# Altium integrated library nrf5340_claa.IntLib: 16 symbols
Pins are listed as number, name and electrical type; pins without a type are passive.

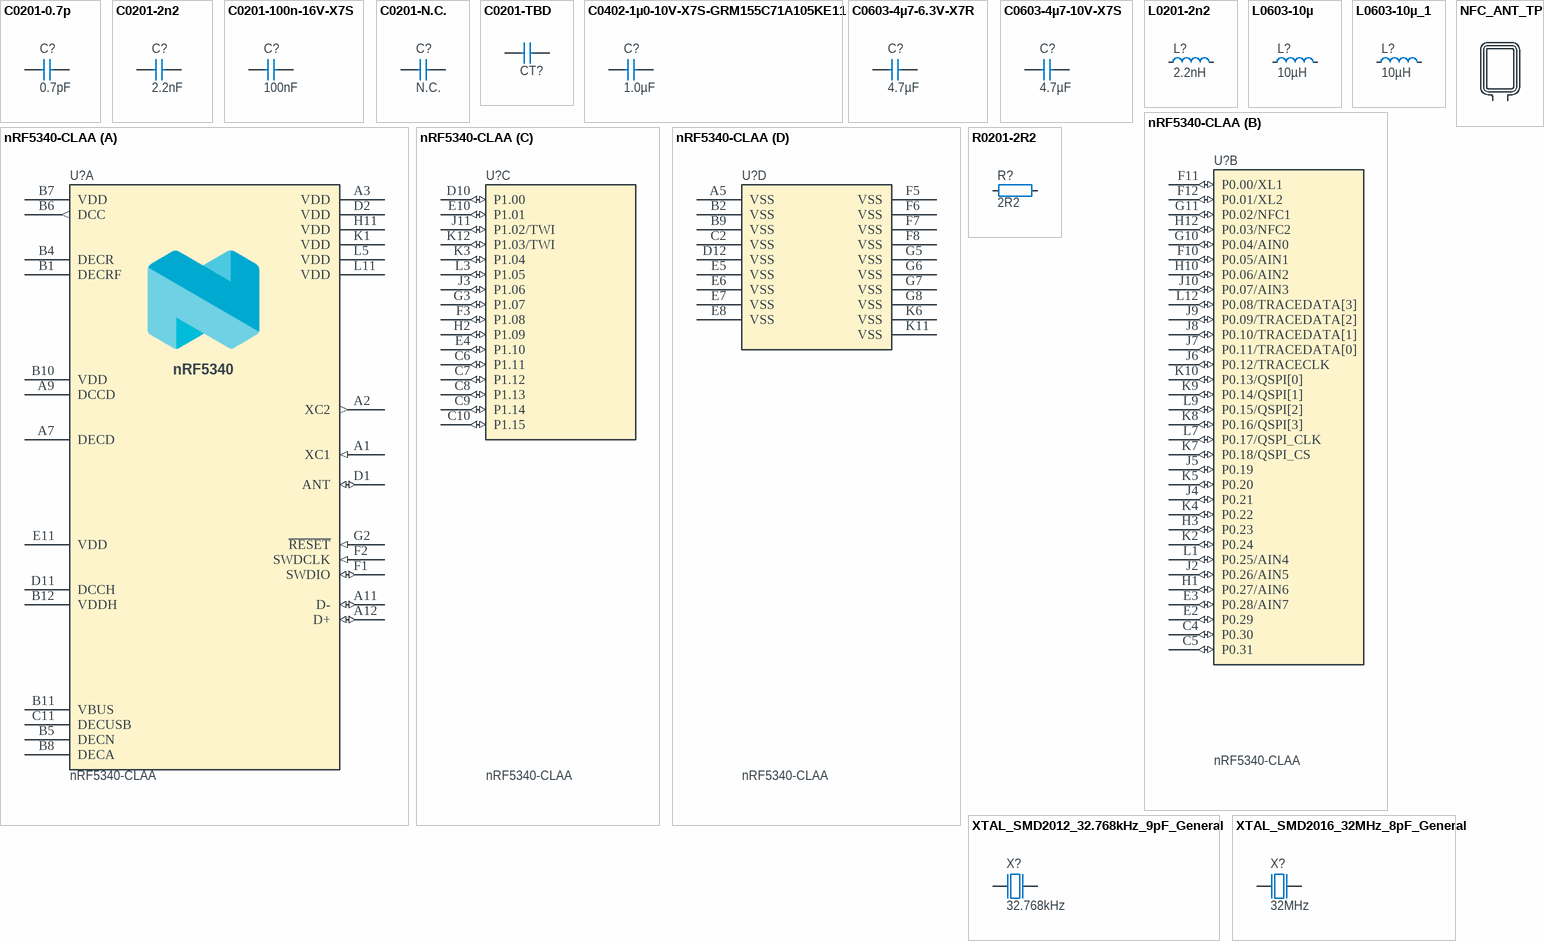
[diagram p0: symbols C0201-0.7p to XTAL_SMD2016_32MHz_8pF_General]

## C0201-0.7p
designator C?, comment 0.7pF
Capacitor, NP0, ±0.05pF; Pad Count: 2; Value: 0.7pF; Footprint Doc: 0201; Component Class: Capacitors; Author: rsk
footprint CAPC0603X03L_C
pins: 1, 2

## C0201-2n2
designator C?, comment 2.2nF
Capacitor, X7R, ±10%; Pad Count: 2; Value: 2.2nF; Footprint Doc: 0201; Component Class: Capacitors; Author: rsk
footprint CAPC0603X03L_C
pins: 1, 2

## C0201-100n-16V-X7S
designator C?, comment 100nF
Capacitor, X7S, ±10%; Pad Count: 2; Value: 100nF; Footprint Doc: 0201; Component Class: Capacitors; Author: rsk
footprint CAPC0603X03L_C
pins: 1, 2

## C0201-N.C.
designator C?, comment N.C.
Not mounted; Assembly: Not mounted; Pad Count: 2; Value: N.C.; Footprint Doc: 0201; Component Class: Capacitors; Author: rsk
footprint CAPC0603X03L_C_NC
pins: 1, 2

## C0201-TBD
designator CT?, comment Antenna dependent  (value not drawn)
Capacitor, NP0, ±5%; Pad Count: 2; Footprint Doc: 0201; Value: Antenna dependent; Component Class: Capacitors; Author: rsk
footprint CAPC0603X03L_C
pins: 1, 2

## C0402-1µ0-10V-X7S-GRM155C71A105KE11
designator C?, comment 1.0µF
Capacitor, X7S, ±10%; Pad Count: 2; Value: 1.0µF; Footprint Doc: 0402; Component Class: Capacitors; Author: prbu
footprint CAPC1005X04L
pins: 1, 2

## C0603-4µ7-6.3V-X7R
designator C?, comment 4.7µF
Capacitor, X7R, ±10%; Pad Count: 2; Value: 4.7µF; Footprint Doc: 0603; Component Class: Capacitors; Author: rsk
footprint CAPC1608X06L
pins: 1, 2

## C0603-4µ7-10V-X7S
designator C?, comment 4.7µF
Capacitor, X7S, ±10%; Pad Count: 2; Value: 4.7µF; Footprint Doc: 0603; Component Class: Capacitors; Author: rsk
footprint CAPC1608X06L
pins: 1, 2

## L0201-2n2
designator L?, comment 2.2nH
High frequency chip inductor, ±5%; Pad Count: 2; Footprint Doc: 0201; Value: 2.2nH; Component Class: Inductors; Author: rsk
footprint INDC0603X03L_C
pins: 1, 2

## L0603-10µ
designator L?, comment 10µH
Chip inductor, IDC,min = 50 mA, ±20%; Pad Count: 2; Value: 10µH; Footprint Doc: 0603; Component Class: Inductors; Author: rsk
footprint INDC1608X06L
pins: 1, 2

## L0603-10µ_1
designator L?, comment 10µH
Chip inductor, IDC,min = 80 mA, ±20%; Pad Count: 2; Value: 10µH; Footprint Doc: 0603; Component Class: Inductors; Author: rsk
footprint INDC1608X06L
pins: 1, 2

## NFC_ANT_TP
designator A?, comment NFC Antenna  (value not drawn)  (no BOM)
Pad Count: 2; Footprint Doc: TP_2x1mm_TH; Value: NFC Antenna; Component Class: Antennas; Author: rsk
footprint TP_2x1mm_TH
pins: 1, 2

## nRF5340-CLAA
designator U?
Multi-protocol Bluetooth Low Energy, IEEE 802.15.4, ANT and 2.4GHz proprietary system-on-chip; Pad Count: 95; Footprint Doc: WLCSP-95; Value: nRF5340-CLAA; Component Class: nRF_Devices; Author: rsk
footprint BGA95C35P12X11_437X397X50
part A pins: A1 XC1 (in), A2 XC2 (out), A3 VDD (power), A7 DECD (power), A9 DCCD (power), A11 D- (io), A12 D+ (io), B1 DECRF (power), B4 DECR (power), B5 DECN (power), B6 DCC (out), B7 VDD (power), B8 DECA (power), B10 VDD (power), B11 VBUS (power), B12 VDDH (power), C11 DECUSB (power), D1 ANT (io), D2 VDD (power), D11 DCCH (power), E11 VDD (power), F1 SWDIO (io), F2 SWDCLK (in), G2 ~{RESET} (in), H11 VDD (power), K1 VDD (power), L5 VDD (power), L11 VDD (power)
part B pins: C4 P0.30 (io), C5 P0.31 (io), E2 P0.29 (io), E3 P0.28/AIN7 (io), F10 P0.05/AIN1 (io), F11 P0.00/XL1 (io), F12 P0.01/XL2 (io), G10 P0.04/AIN0 (io), G11 P0.02/NFC1 (io), H1 P0.27/AIN6 (io), H3 P0.23 (io), H10 P0.06/AIN2 (io), H12 P0.03/NFC2 (io), J2 P0.26/AIN5 (io), J4 P0.21 (io), J5 P0.19 (io), J6 P0.12/TRACECLK (io), J7 P0.11/TRACEDATA[0] (io), J8 P0.10/TRACEDATA[1] (io), J9 P0.09/TRACEDATA[2] (io), J10 P0.07/AIN3 (io), K2 P0.24 (io), K4 P0.22 (io), K5 P0.20 (io), K7 P0.18/QSPI_CS (io), K8 P0.16/QSPI[3] (io), K9 P0.14/QSPI[1] (io), K10 P0.13/QSPI[0] (io), L1 P0.25/AIN4 (io), L7 P0.17/QSPI_CLK (io), L9 P0.15/QSPI[2] (io), L12 P0.08/TRACEDATA[3] (io)
part C pins: C6 P1.11 (io), C7 P1.12 (io), C8 P1.13 (io), C9 P1.14 (io), C10 P1.15 (io), D10 P1.00 (io), E4 P1.10 (io), E10 P1.01 (io), F3 P1.08 (io), G3 P1.07 (io), H2 P1.09 (io), J3 P1.06 (io), J11 P1.02/TWI (io), K3 P1.04 (io), K12 P1.03/TWI (io), L3 P1.05 (io)
part D pins: A5 VSS (power), B2 VSS (power), B9 VSS (power), C2 VSS (power), D12 VSS (power), E5 VSS (power), E6 VSS (power), E7 VSS (power), E8 VSS (power), F5 VSS (power), F6 VSS (power), F7 VSS (power), F8 VSS (power), G5 VSS (power), G6 VSS (power), G7 VSS (power), G8 VSS (power), K6 VSS (power), K11 VSS (power)
part A text: nRF5340

## R0201-2R2
designator R?, comment 2R2
Resistor, ±1%, 0.05W; Pad Count: 2; Footprint Doc: 0201; Value: 2R2; Component Class: Resistors; Author: rsk
footprint RESC0603X03L_C
pins: 1, 2

## XTAL_SMD2012_32.768kHz_9pF_General
designator X?, comment 32.768kHz
XTAL SMD 2012, 32.768kHz, Cl=9pF, Total Tol: ±50ppm; Pad Count: 2; Value: 32.768kHz; Footprint Doc: XTAL_2012; Component Class: Oscillators; Author: rsk
footprint XTAL_2012
pins: 1 inp, 2 out

## XTAL_SMD2016_32MHz_8pF_General
designator X?, comment 32MHz
XTAL SMD 2016, 32MHz, Cl=8pF, Total Tol: ±30ppm; Pad Count: 4; Value: 32MHz; Footprint Doc: XTAL_2016; Component Class: Oscillators; Author: rsk
footprint BT-XTAL_2016
pins: 1 inp, 2 GND hidden to GND, 3 out, 4 GND hidden to GND